# EAGLE library part FLAT-FLEX-CONNECTOR-VERT-11POS (library FlashPCB_Connectors)
FLAT-FLEX-CONNECTOR-VERT-11POS - Flat Flex Connector 11 position Vertical Technical Specifications: Number of Positions: 11 Contact: One Side Mount: Vertical
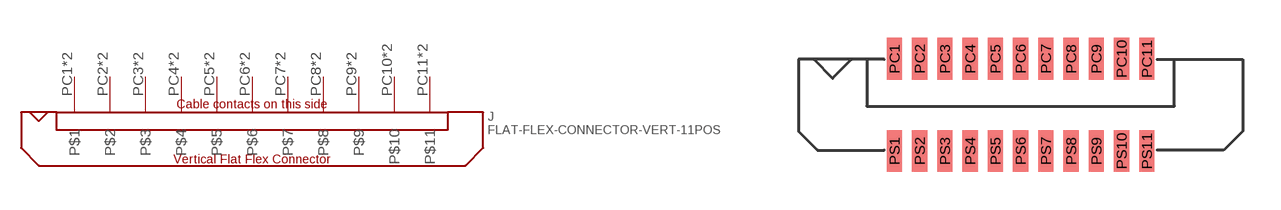
[diagram p125: symbol with the pads of FLAT-FLEX-CONNECTOR-MOLEX-52610-VERT-11POS; footprint FLAT-FLEX-CONNECTOR-MOLEX-52610-VERT-11POS]

Designator prefix J

## FLAT-FLEX-CONNECTOR-VERT-11POS1MM-PITCH  [FLAT-FLEX-CONNECTOR-MOLEX-52610-VERT-11POS]
PC1  P$1
PC2  P$2
PC3  P$3
PC4  P$4
PC5  P$5
PC6  P$6
PC7  P$7
PC8  P$8
PC9  P$9
PC10  P$10
PC11  P$11
PS1  P$1
PS2  P$2
PS3  P$3
PS4  P$4
PS5  P$5
PS6  P$6
PS7  P$7
PS8  P$8
PS9  P$9
PS10  P$10
PS11  P$11

## Footprint FLAT-FLEX-CONNECTOR-MOLEX-52610-VERT-11POS (pad centres in mm)
smd 0.6 x 1.65: PC1 -5,1.825; PC2 -4,1.825; PC3 -3,1.825; PC4 -2,1.825; PC5 -1,1.825; PC6 0,1.825; PC7 1,1.825; PC8 2,1.825; PC9 3,1.825; PC10 4,1.825; PC11 5,1.825; PS1 -5,-1.825; PS2 -4,-1.825; PS3 -3,-1.825; PS4 -2,-1.825; PS5 -1,-1.825; PS6 0,-1.825; PS7 1,-1.825; PS8 2,-1.825; PS9 3,-1.825; PS10 4,-1.825; PS11 5,-1.825